# Altium footprint library PCB2.PcbLib: 12 footprints
Each footprint in its own frame and in the unit in brackets; x right, y up, seen from the top. Pads: shape width x height; smd on the part's side, far side on the other; paste and mask are expansions set on the pad; w line width, h text height; cw(c..) or ccw(c..) is an arc to the next point about the centre after c.
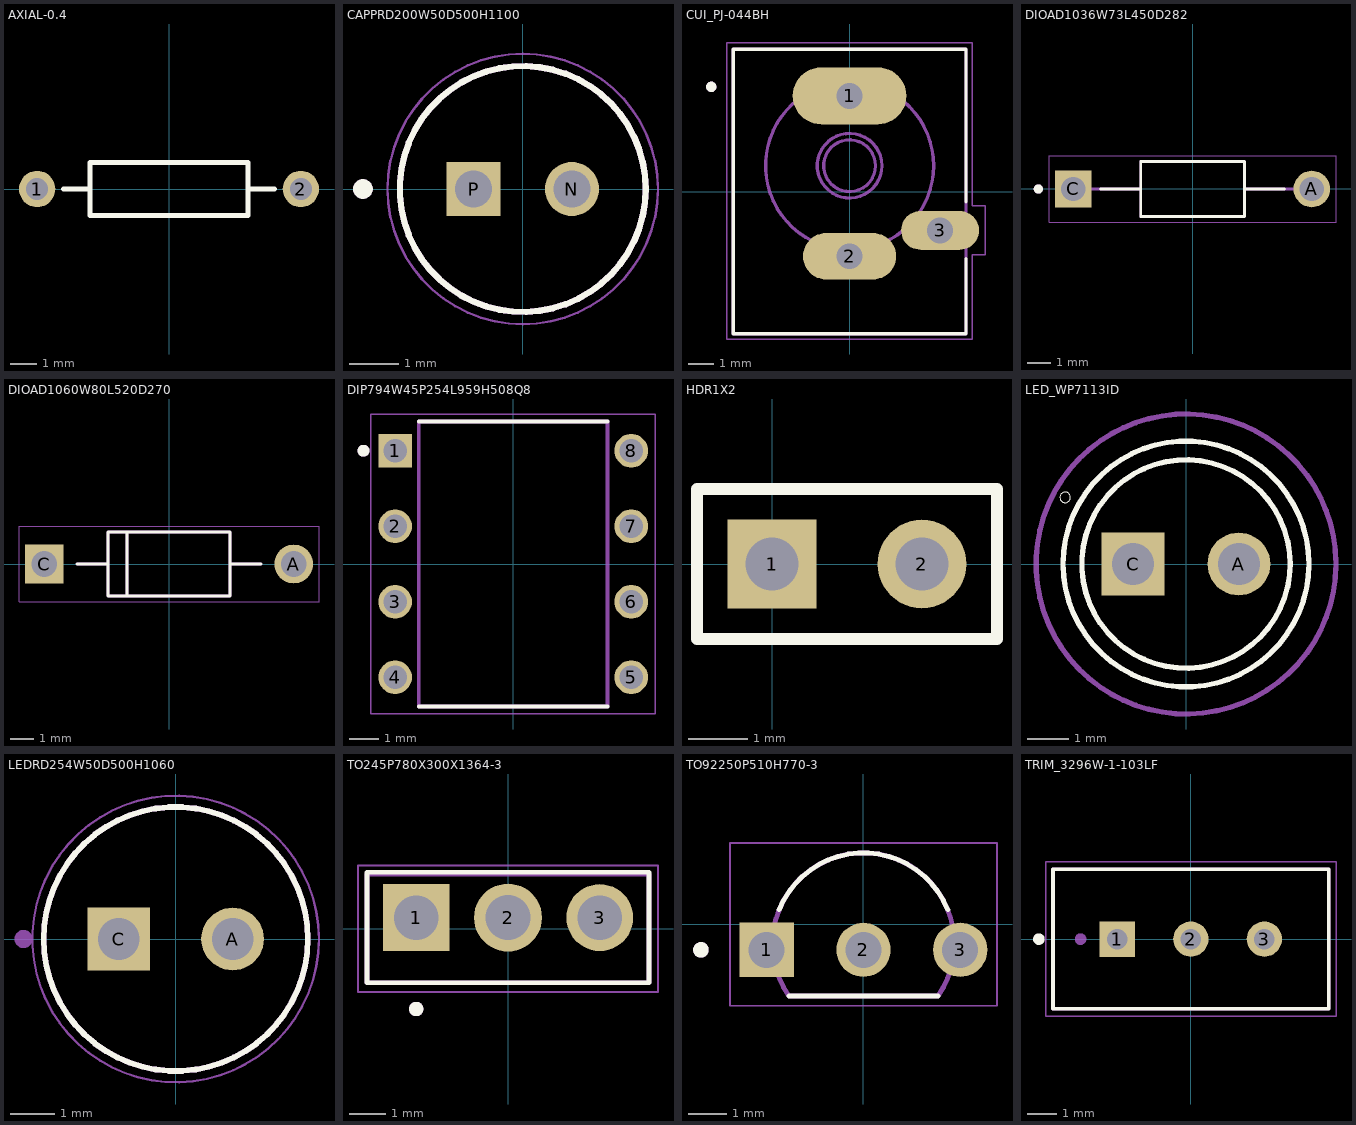
[diagram p0: the footprints below, top view; thin cyan lines are the x and y axes]

## AXIAL-0.4 [mm]
pads (2):
  round 1.4 hole 0.85: 1(-5.08,0) 2(5.08,0)
Top Overlay:
  lines w0.2: -4.064,0 -3.048,0 ; 3.048,0 4.064,0 ; -3.048,-1.016 3.048,-1.016 3.048,1.016 -3.048,1.016 -3.048,-1.016

## CAPPRD200W50D500H1100 [mm]
pads (2):
  round 1.1 hole 0.75: N(1,0)
  rect 1.1x1.1 hole 0.75: P(-1,0)
Top Overlay:
  circle w0.2: c-3.25,0 r0.1
  circle w0.127: c0,0 r2.5
Mechanical 13:
  circle w0.2: c-3.25,0 r0.1
  circle w0.127: c0,0 r2.5
Mechanical 15:
  circle w0.05: c0,0 r2.75
3D body "step_temp.STEP": height 11, standoff -17, extent -2.5,-2.498 2.5,2.498

## CUI_PJ-044BH [mm]
pads (3):
  oval 4.4x2.2 hole 1: 1(0,3.7)
  oval 3.6x1.8 hole 1 square: 2(0,-2.5)
  oval 3.016x1.508 hole 1 square: 3(3.5,-1.5)
Top Overlay:
  circle w0.2: c-5.35,4.05 r0.1
  lines w0.127: 4.5,-2.6 4.5,-5.5 -4.5,-5.5 -4.5,5.5 4.5,5.5 4.5,-0.4
Mechanical 1:
  lines w0: -1.85,3.2 -1.85,4.2 1.65,4.2 1.65,3.2 -1.85,3.2
Mechanical 13:
  circle w0.2: c-5.35,4.05 r0.1
  circle w0.127: c0,1 r1.25
  circle w0.127: c0,1 r3.25
  circle w0.127: c0,1 r1
  lines w0.127: -4.5,-5.5 -4.5,5.5 4.5,5.5 4.5,-5.5 -4.5,-5.5
Mechanical 15:
  lines w0.05: -4.75,-5.7 -4.75,5.75 4.75,5.75 4.75,-0.55 5.25,-0.55 5.25,-2.45 4.75,-2.45 4.75,-5.7 -4.75,-5.7

## DIOAD1036W73L450D282 [mm]
pads (2):
  round 1.59 hole 1.06: A(5.18,0)
  rect 1.59x1.59 / inner round 1.59 / far side rect 1.59x1.59 hole 1.06: C(-5.18,0)
Top Overlay:
  circle w0.2: c-6.7,0 r0.1
  lines w0.127: -4,0 -2.25,0 ; 4,0 2.25,0 ; -2.25,0 -2.25,-1.2 2.25,-1.2 2.25,0 ; -2.25,0 -2.25,1.2 2.25,1.2 2.25,0
Mechanical 13:
  circle w0.2: c-6.7,0 r0.1
  lines w0.127: -5.18,0 -2.25,0 ; 5.18,0 2.25,0 ; -2.25,0 -2.25,-1.2 2.25,-1.2 2.25,0 ; -2.25,0 -2.25,1.2 2.25,1.2 2.25,0
Mechanical 15:
  lines w0.05: -6.23,-1.45 6.23,-1.45 6.23,1.45 -6.23,1.45 -6.23,-1.45
3D body "step_temp.STEP": height 2.8, standoff -15.3, extent -5.545,-1.4 5.545,1.4

## DIOAD1060W80L520D270 [mm]
pads (2):
  round 1.65 hole 1.1: A(5.3,0)
  rect 1.65x1.65 / inner round 1.65 / far side rect 1.65x1.65 hole 1.1: C(-5.3,0)
Top Overlay:
  lines w0.127: -3.9,0 -2.6,0 ; 3.9,0 2.6,0 ; -2.6,0 -2.6,-1.35 -1.775,-1.35 ; -2.6,0 -2.6,1.35 -1.775,1.35 ; -1.775,-1.35 -1.775,1.35 ; -1.775,-1.35 2.6,-1.35 2.6,0 ; -1.775,1.35 2.6,1.35 2.6,0
Mechanical 13:
  lines w0.127: -3.9,0 -2.6,0 ; 3.9,0 2.6,0 ; -2.6,0 -2.6,-1.35 -1.775,-1.35 ; -2.6,0 -2.6,1.35 -1.775,1.35 ; -1.775,-1.35 -1.775,1.35 ; -1.775,-1.35 2.6,-1.35 2.6,0 ; -1.775,1.35 2.6,1.35 2.6,0
Mechanical 15:
  lines w0.05: -6.375,-1.6 -6.375,1.6 6.375,1.6 6.375,-1.6 -6.375,-1.6
3D body "step_temp.STEP": height 2, standoff -22.86, extent -4.242,-1 4.242,1

## DIP794W45P254L959H508Q8 [mm]
pads (8):
  rect 1.13x1.13 hole 0.78: 1(-3.97,3.81)
  round 1.13 hole 0.78: 2(-3.97,1.27) 3(-3.97,-1.27) 4(-3.97,-3.81) 5(3.97,-3.81) 6(3.97,-1.27) 7(3.97,1.27) 8(3.97,3.81)
Top Overlay:
  circle w0.2: c-5.035,3.81 r0.1
  lines w0.127: -3.175,-4.795 3.175,-4.795 ; -3.175,4.795 3.175,4.795
Mechanical 13:
  circle w0.2: c-5.035,3.81 r0.1
  lines w0.127: -3.175,-4.795 -3.175,4.795 3.175,4.795 3.175,-4.795 -3.175,-4.795
Mechanical 15:
  lines w0.05: -4.785,-5.045 -4.785,5.045 4.785,5.045 4.785,-5.045 -4.785,-5.045

## HDR1X2 [mm]
pads (2):
  rect 1.5x1.5 hole 0.9: 1(0,0)
  round 1.5 hole 0.9: 2(2.54,0)
Top Overlay:
  lines w0.2: -1.27,-1.27 -1.27,1.27 3.81,1.27 3.81,-1.27 -1.27,-1.27

## LED_WP7113ID [mm]
pads (2):
  round 1.508 hole 1: A(1.27,0)
  rect 1.508x1.508 / inner round 1.508 / far side rect 1.508x1.508 hole 1: C(-1.27,0)
Top Overlay:
  circle w0: c-2.9,1.6 r0.127
  circle w0.127: c0,0 r2.5
  circle w0.127: c0,0 r2.95
Mechanical 15:
  circle w0.127: c0,0 r3.6
3D body "step_temp.STEP": height 9.6, standoff -26, extent -2.5,-2.95 2.95,2.95

## LEDRD254W50D500H1060 [mm]
pads (2):
  round 1.4 hole 0.93: A(1.27,0)
  rect 1.4x1.4 / inner round 1.4 / far side rect 1.4x1.4 hole 0.93: C(-1.27,0)
Top Overlay:
  circle w0.127: c0,0 r2.95
Mechanical 13:
  circle w0.127: c0,0 r2.95
  circle w0.2: c-3.4,0 r0.1
Mechanical 15:
  circle w0.05: c0,0 r3.2
3D body "step_temp.STEP": height 9.6, standoff -26, extent -2.5,-2.95 2.95,2.95

## TO245P780X300X1364-3 [mm]
pads (3):
  rect 1.85x1.85 hole 1.23: 1(-2.54,0.305)
  round 1.88 hole 1.25: 2(0,0.305)
  round 1.85 hole 1.23: 3(2.54,0.305)
Top Overlay:
  circle w0.2: c-2.54,-2.222 r0.1
  lines w0.127: -3.9,-1.5 -3.9,1.559 3.9,1.559 3.9,-1.5 -3.9,-1.5
Mechanical 13:
  circle w0.2: c-2.54,-2.222 r0.1
  lines w0.127: -3.9,-1.5 -3.9,1.5 3.9,1.5 3.9,-1.5 -3.9,-1.5
Mechanical 15:
  lines w0.05: -4.15,-1.75 -4.15,1.75 4.15,1.75 4.15,-1.75 -4.15,-1.75
3D body "step_temp.STEP": height 13.2, standoff -13.85, extent -3.8,-1.515 3.8,1.135

## TO92250P510H770-3 [mm]
pads (3):
  rect 1.4x1.4 / inner round 1.4 / far side rect 1.4x1.4 hole 0.93: 1(-2.5,-0.655)
  round 1.4 hole 0.93: 2(0,-0.655) 3(2.5,-0.655)
Top Overlay:
  circle w0.2: c-4.2,-0.655 r0.1
  lines w0.127: -2.179,0.38 cw(c0,-0.5) 2.179,0.38 ; -1.924,-1.85 1.924,-1.85 -1.924,-1.85
Mechanical 13:
  circle w0.2: c-4.2,-0.655 r0.1
  lines w0.127: -1.925,-1.848 cw(c0,-0.5) 1.925,-1.848 ; -1.924,-1.85 1.924,-1.85
Mechanical 15:
  lines w0.05: -3.45,-2.1 3.45,-2.1 3.45,2.1 -3.45,2.1 -3.45,-2.1
3D body "step_temp.STEP": height 5.33, standoff -15.62, extent -2.38,-1.43 2.38,2.19

## TRIM_3296W-1-103LF [mm]
pads (3):
  rect 1.218x1.218 hole 0.71: 1(-2.54,0)
  round 1.218 hole 0.71: 2(0,0) 3(2.54,0)
Top Overlay:
  circle w0.2: c-5.25,0 r0.1
  lines w0.127: -4.765,-2.41 4.765,-2.41 4.765,2.42 -4.765,2.42 -4.765,-2.41
Mechanical 13:
  circle w0.2: c-3.81,0 r0.1
  lines w0.127: -4.765,-2.41 -4.765,2.42 4.765,2.42 4.765,-2.41 -4.765,-2.41
Mechanical 15:
  lines w0.05: -5.015,-2.66 -5.015,2.67 5.015,2.67 5.015,-2.66 -5.015,-2.66
3D body "step_temp.STEP": height 11.55, standoff -7.72, extent -4.765,-2.41 4.765,2.42